# Altium footprint library PCB - LEADLESS - QFN - MICROCHIP QFN-24 4x4.PCBLIB: 1 footprints
Each footprint in its own frame and in the unit in brackets; x right, y up, seen from the top. Pads: shape width x height; smd on the part's side, far side on the other; paste and mask are expansions set on the pad; w line width, h text height; cw(c..) or ccw(c..) is an arc to the next point about the centre after c.
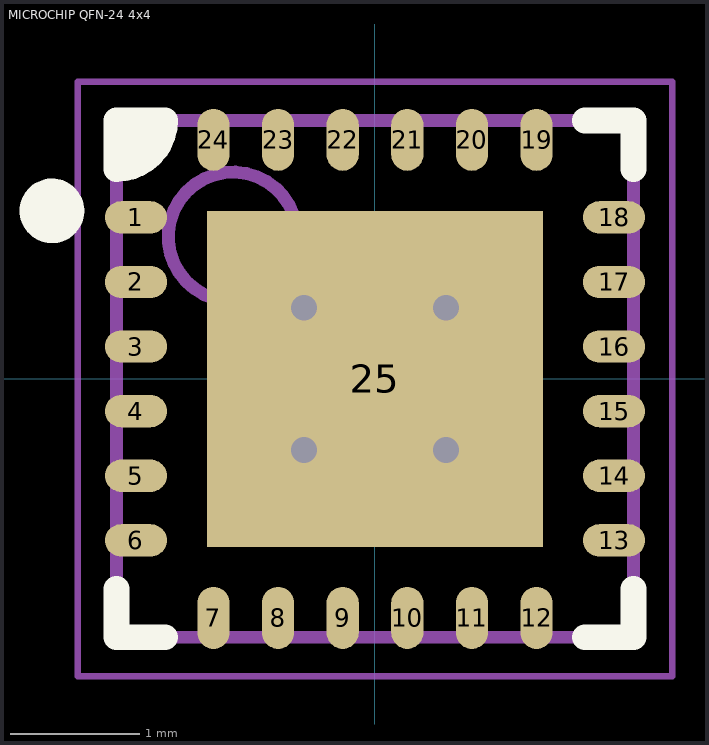
[diagram p0: the footprint, top view; thin cyan lines are the x and y axes]

## MICROCHIP QFN-24 4x4 [mm] "QFN, 24-Leads, Body 4.00x4.00mm, Pitch 0.50mm, Thermal Pad 2.50x2.50mm, IPC Medium Density"
height 0.9
pads (25):
  oval 0.48x0.25 smd: 1(-1.85,1.25) 2(-1.85,0.75) 3(-1.85,0.25) 4(-1.85,-0.25) 5(-1.85,-0.75) 6(-1.85,-1.25) 13(1.85,-1.25) 14(1.85,-0.75) 15(1.85,-0.25) 16(1.85,0.25) 17(1.85,0.75) 18(1.85,1.25)
  oval 0.25x0.48 smd: 7(-1.25,-1.85) 8(-0.75,-1.85) 9(-0.25,-1.85) 10(0.25,-1.85) 11(0.75,-1.85) 12(1.25,-1.85) 19(1.25,1.85) 20(0.75,1.85) 21(0.25,1.85) 22(-0.25,1.85) 23(-0.75,1.85) 24(-1.25,1.85)
  rect 2.6x2.6 smd paste-5: 25(0,0)
via -0.55,0.55 diameter 0.5 hole 0.2
via 0.55,0.55 diameter 0.5 hole 0.2
via -0.55,-0.55 diameter 0.5 hole 0.2
via 0.55,-0.55 diameter 0.5 hole 0.2
Top Overlay:
  circle w0.25: c-2.5,1.3 r0.125
  region: -1.7,2.012 -2,2.012 -2,1.7 -1.8,1.7 -1.7,1.8
  lines w0.2: -2,-1.625 -2,-2 -1.625,-2 ; 1.625,-2 2,-2 2,-1.625 ; 1.625,2 2,2 2,1.625 ; -2,1.625 ccw(c-2,2) -1.625,2 -2,2 -2,1.625
Top Paste:
  rectangle: -1.3,-1.3 -0.1,-0.1
  region: -1.3,1.3 -1.3,0.1 -0.1,0.1 -0.1,1.3
  region: 1.3,-1.3 1.3,-0.1 0.1,-0.1 0.1,-1.3
  region: 1.3,1.3 0.1,1.3 0.1,0.1 1.3,0.1
Mechanical 13:
  circle w0.1: c-1.1,1.1 r0.5
  lines w0.1: -2,-2 -2,2 2,2 2,-2 -2,-2
Mechanical 15:
  lines w0.05: -2.3,-2.3 2.3,-2.3 2.3,2.3 -2.3,2.3 -2.3,-2.3
  lines w0.1: -0.5,0 0.5,0 ; 0,-0.5 0,0.5
3D body: height 0.9, standoff 0.05, extent -2,-2 2,2